# Altium footprint library Footprint_USB.PcbLib: 6 footprints
Each footprint in its own frame and in the unit in brackets; x right, y up, seen from the top. Pads: shape width x height; smd on the part's side, far side on the other; paste and mask are expansions set on the pad; w line width, h text height; cw(c..) or ccw(c..) is an arc to the next point about the centre after c.
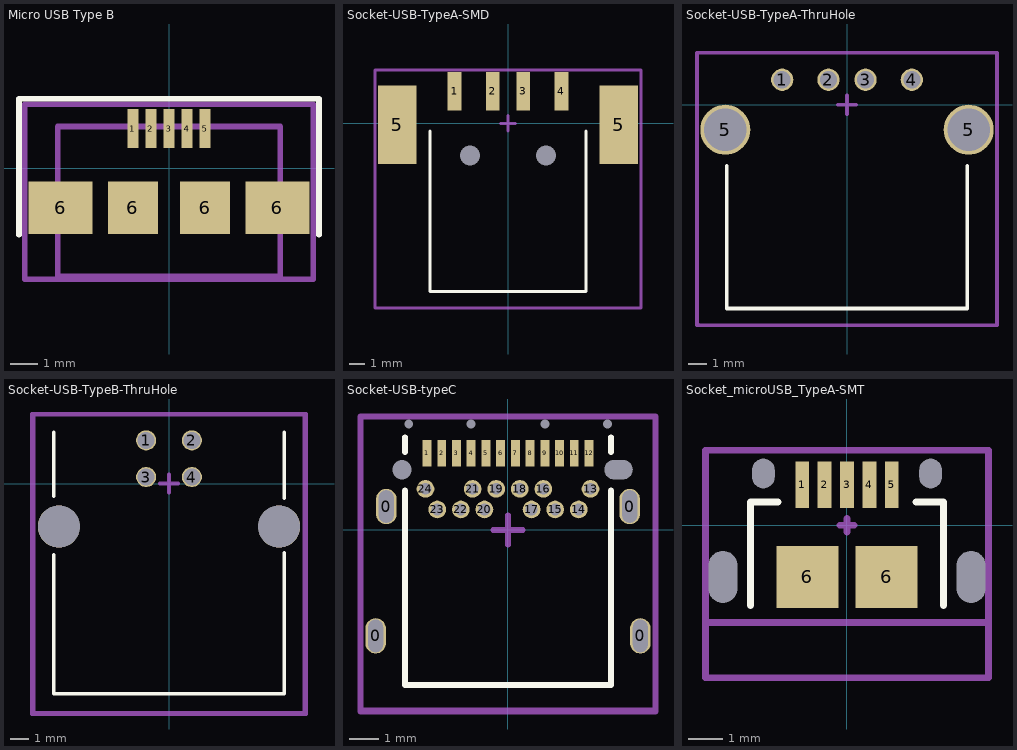
[diagram p0: the footprints below, top view; thin cyan lines are the x and y axes]

## Micro USB Type B [mm]
pads (9):
  rect 0.4x1.4 smd: 1(-1.3,1.425) 2(-0.65,1.425) 3(0,1.425) 4(0.65,1.425) 5(1.3,1.425)
  rect 2.3x1.9 smd: 6(-3.9,-1.425) 6(3.9,-1.425)
  rect 1.8x1.9 smd: 6(-1.3,-1.425) 6(1.3,-1.425)
Top Overlay:
  lines w0.2: -5.4,-2.4 -5.4,2.5 5.4,2.5 5.4,-2.4
Mechanical 13:
  lines w0.2: -4,-3.9 4,-3.9 4,1.5 -4,1.5 -4,-3.9
Mechanical 15:
  lines w0.2: -5.2,-4 5.2,-4 5.2,2.3 -5.2,2.3 -5.2,-4
3D body "User Library-Micro USB.step": height 2.72, standoff -0.22, extent -3.99,-3.88 3.99,1.55

## Socket-USB-TypeA-SMD [mm]
pads (8):
  rect 0.9x2.5 smd: 1(-3.5,2.1) 2(-1,2.1) 3(1,2.1) 4(3.5,2.1)
  rect 2.5x5.15 smd: 5(-7.25,-0.1) 5(7.25,-0.1)
  round 0 hole 1.3 unplated: ""(-2.5,-2.1) ""(2.5,-2.1)
Top Overlay:
  lines w0.2: -5.1,-0.5 -5.1,-11 5.1,-11 5.1,-0.5
Mechanical 13:
  lines w0.2: -8.7,-12.1 8.7,-12.1 8.7,3.5 -8.7,3.5 -8.7,3.1 -8.7,-12.1
Mechanical 15:
  lines w0.2: -0.5,0 0.5,0 ; 0,-0.5 0,0.5 ; -8.7,-12.1 -8.7,3.5 8.7,3.5 8.7,-12.1 -8.7,-12.1
3D body "User Library-USB-TypeA-SMD.step": height 7.76, standoff -1.03, extent -8.63,-12 8.63,3.16

## Socket-USB-TypeA-ThruHole [mm]
pads (6):
  round 1.2 hole 0.92 unplated: 1(-3.5,1.35) 2(-1,1.35) 3(1,1.35) 4(3.5,1.35)
  round 2.7 hole 2.3: 5(-6.57,-1.35) 5(6.57,-1.35)
Top Overlay:
  lines w0.2: -6.5,-3.3 -6.5,-11 6.5,-11 6.5,-3.3
Mechanical 13:
  lines w0.2: -8.1,-11.9 -8.1,2.8 8.1,2.8 8.1,-11.9 -8.1,-11.9
Mechanical 15:
  lines w0.2: -0.5,0 0.5,0 ; 0,-0.5 0,0.5 ; -8.1,-11.8 -8.1,2.8 8.1,2.8 8.1,-11.9 -8,-11.9 -8.1,-11.8
3D body "14388.stp": height 7, standoff -3.85, extent -7.9,-11.75 7.9,2.75

## Socket-USB-TypeB-ThruHole [mm]
height 10.62
pads (6):
  round 1.1 hole 0.92: 1(-1.25,2.355) 2(1.25,2.355) 3(-1.25,0.355) 4(1.25,0.355)
  round 2.3 hole 2.3 unplated: ""(-6.02,-2.355) ""(6.02,-2.355)
Top Overlay:
  lines w0.2: -6.3,-3.9 -6.3,-11.5 6.3,-11.5 6.3,-3.8 ; -6.3,-0.7 -6.3,2.8 ; 6.3,-0.8 6.3,2.8
Mechanical 13:
  lines w0.2: -7.4,-12.545 7.4,-12.545 7.4,3.755 -7.4,3.755 -7.4,-12.545
Mechanical 15:
  lines w0.2: -0.5,0 0.5,0 ; 0,-0.5 0,0.5 ; -7.5,-12.6 7.5,-12.6 7.5,3.8 -7.5,3.8 -7.5,-12.6
3D body "User Library-USB-TypeB.step": height 10.7, standoff -3.8, extent -7.345,-12.444 7.346,3.756

## Socket-USB-typeC [mm]
pads (34):
  oval 0.7x1.2 hole 0.5 slot 1.1 at 90 deg: 0(-4.49,-3.595) 0(-4.13,0.795) 0(4.13,0.795) 0(4.49,-3.595)
  round 0 hole 0.65 unplated: 0(-3.6,2.045)
  rect 0x0 hole 0.3 square unplated: 0(-3.37,3.595) 0(-1.25,3.595) 0(1.25,3.595) 0(3.38,3.595)
  round 0 hole 0.65 slot 0.95 at 0 deg unplated: 0(3.75,2.045)
  rect 0.3x0.9 smd: 1(-2.75,2.605) 2(-2.25,2.605) 3(-1.75,2.605) 4(-1.25,2.605) 5(-0.75,2.605) 6(-0.25,2.605) 7(0.25,2.605) 8(0.75,2.605) 9(1.25,2.605) 10(1.75,2.605) 11(2.25,2.605) 12(2.75,2.605)
  round 0.6 hole 0.4: 13(2.8,1.395) 14(2.4,0.695) 15(1.6,0.695) 16(1.2,1.395) 17(0.8,0.695) 18(0.4,1.395) 19(-0.4,1.395) 20(-0.8,0.695) 21(-1.2,1.395) 22(-1.6,0.695) 23(-2.4,0.695) 24(-2.8,1.395)
Top Overlay:
  lines w0.2: -3.5,1.345 -3.5,-5.255 3.5,-5.255 3.5,1.345 ; -3.5,2.645 -3.5,3.145 ; 3.5,2.645 3.5,3.145
Mechanical 13:
  lines w0.2: -5,-6.155 5,-6.155 5,3.845 -5,3.845 -5,-6.155
Mechanical 15:
  lines w0.2: -0.5,0 0.5,0 ; 0,-0.5 0,0.5 ; -5,-6.125 5,-6.125 5,3.445 5,3.845 4.6,3.845 -5,3.845 -5,-6.125

## Socket_microUSB_TypeA-SMT [mm]
pads (11):
  rect 0.4x1.35 smd: 1(-1.3,1.175) 2(-0.65,1.175) 3(0,1.175) 4(0.65,1.175) 5(1.3,1.175)
  round 0 hole 0.83 slot 1.5 at 90 deg: 6(-3.6,-1.5) 6(3.6,-1.5)
  round 0 hole 0.65 slot 0.85 at 90 deg: 6(-2.425,1.5) 6(2.425,1.5)
  rect 1.8x1.8 smd: 6(-1.15,-1.5) 6(1.15,-1.5)
Top Overlay:
  lines w0.2: -2.8,-2.325 -2.8,0.675 -2,0.675 ; 2,0.675 2.8,0.675 2.8,-2.325
Mechanical 13:
  lines w0.2: -4.1,-4.425 4.1,-4.425 4.1,2.175 -4,2.175 -4.1,2.175 -4.1,-4.425
Mechanical 15:
  lines w0.2: -0.2,0 0.2,0 ; 0,-0.2 0,0.2 ; -4.1,-2.825 -4.1,2.175 4.1,2.175 4.1,-2.825 -4.1,-2.825
3D body "User Library-microUSB.STEP": height 2.85, standoff -0.75, extent -4.02,-4.325 4.02,1.708